# Altium schematic symbol library Hall_Sensor_Sch.SchLib: 2 symbols
Pins are listed as number, name and electrical type; pins without a type are passive.

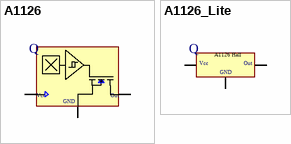
[diagram p0: symbols A1126 to A1126_Lite]

## A1126
designator Q
footprint SIP-3
pins: 1 Vcc, 2 OUT, 3 GND
text: Out

## A1126_Lite
designator Q
footprint SIP-3
pins: 1 Vcc, 2 OUT, 3 GND
text: A1126 Hall; Out